# Altium schematic symbol library Lab03.SchLib: 5 symbols
Pins are listed as number, name and electrical type; pins without a type are passive.

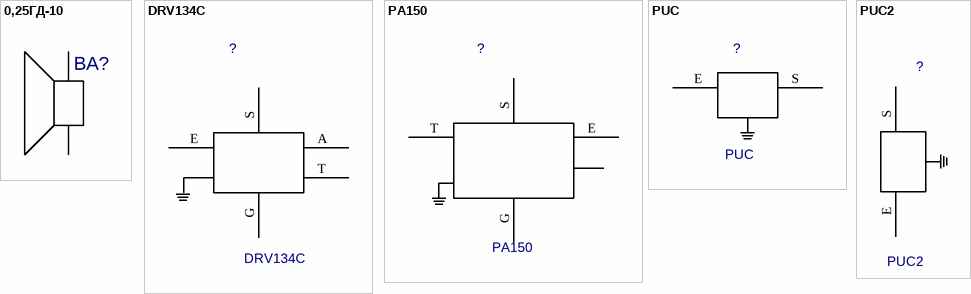
[diagram p0: symbols 0,25ГД-10 to PUC2]

## 0,25ГД-10
designator BA?  (value not drawn)
Value: *
footprint 0,25ГД-10
pins: 1, 2, 3 hidden, 4 hidden, 5 hidden, 6 hidden

## DRV134C
designator ?
Value: *
footprint DRV134P
pins: A, E, G, S, T

## PA150
designator ?
Value: *
footprint PA150P
pins: E, G, S, T

## PUC
designator ?
Value: *
footprint PUP
pins: E, S

## PUC2
designator ?
Value: *
footprint PUP2
pins: E, S